# Altium schematic symbol library HR911130A.SchLib: 1 symbol
Pins are listed as number, name and electrical type; pins without a type are passive.

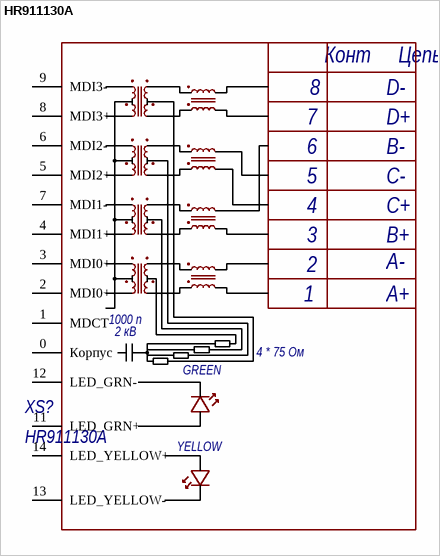
[diagram p0: symbol HR911130A]

## HR911130A
designator XS?
pins: 0 Корпус, 1 MDCT, 2 MDI0+, 3 MDI0+, 4 MDI1+, 5 MDI2+, 6 MDI2-, 7 MDI1-, 8 MDI3+, 9 MDI3-, 11 LED_GRN+, 12 LED_GRN-, 13 LED_YELLOW-, 14 LED_YELLOW+
text: Конт; Цепь; D-; D+; B-; C-; C+; B+; A-; A+; 1000 п; 2 кВ; 4 * 75 Ом; GREEN; YELLOW